# EAGLE library part MOLEX_0541020164 (library wiiBL)
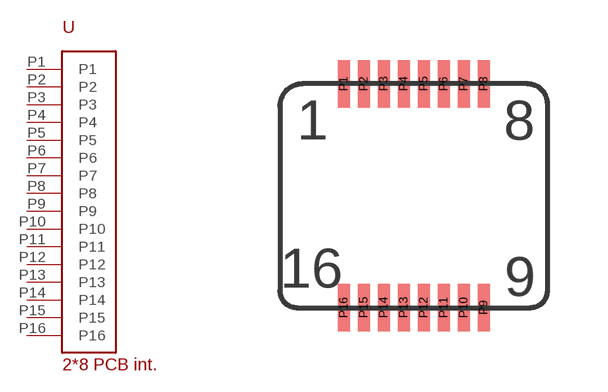
[diagram p0: symbol with the pads of MOLEX_0541020164; footprint MOLEX_0541020164]

Designator prefix -

## MOLEX_0541020164MOLEX  [MOLEX_0541020164]
P1  P1
P2  P2
P3  P3
P4  P4
P5  P5
P6  P6
P7  P7
P8  P8
P9  P9
P10  P10
P11  P11
P12  P12
P13  P13
P14  P14
P15  P15
P16  P16

## Footprint MOLEX_0541020164 (pad centres in mm)
smd 0.3 x 1.2: P1 -1.778,5.6; P2 -1.278,5.6; P3 -0.778,5.6; P4 -0.278,5.6; P5 0.222,5.6; P6 0.722,5.6; P7 1.222,5.6; P8 1.722,5.6; P9 1.722,0; P10 1.222,0; P11 0.722,0; P12 0.222,0; P13 -0.278,0; P14 -0.778,0; P15 -1.278,0; P16 -1.778,0